# Altium schematic symbol library MAX9153.SchLib: 1 symbol
Pins are listed as number, name and electrical type; pins without a type are passive.

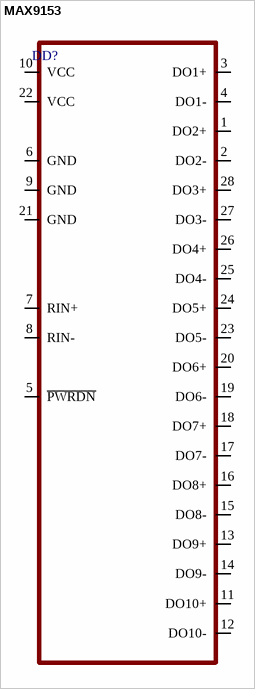
[diagram p0: symbol MAX9153]

## MAX9153
designator DD?
pins: 1 DO2+, 2 DO2-, 3 DO1+, 4 DO1-, 5 ~{PWRDN}, 6 GND, 7 RIN+, 8 RIN-, 9 GND, 10 VCC, 11 DO10+, 12 DO10-, 13 DO9+, 14 DO9-, 15 DO8-, 16 DO8+, 17 DO7-, 18 DO7+, 19 DO6-, 20 DO6+, 21 GND, 22 VCC, 23 DO5-, 24 DO5+, 25 DO4-, 26 DO4+, 27 DO3-, 28 DO3+